# EAGLE library part DCJ0202 (library trainlib)
DC POWER JACK Source: DCJ0202.pdf
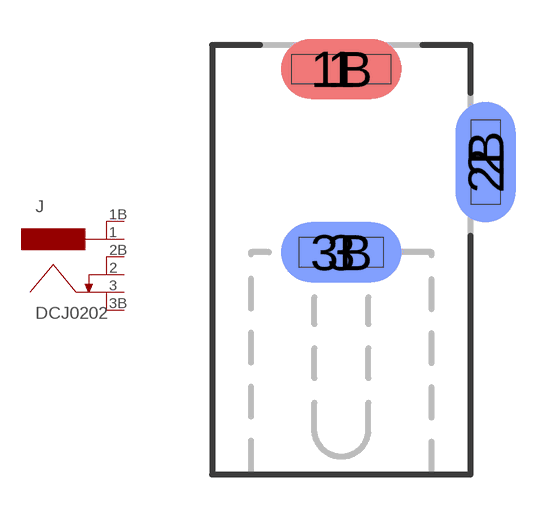
[diagram p29: symbol with the pads of DCJ0202; footprint DCJ0202]

Designator prefix J

## DCJ0202 (OC_FARNELL: unknown; OC_NEWARK: unknown)  [DCJ0202]
1  1  pas
1B  1B  pas
2  2  pas
2B  2B  pas
3  3  pas
3B  3B  pas

## Footprint DCJ0202 (pad centres in mm)
DC POWER JACK Source: DCJ0202.pdf
smd 4 x 2 bottom: 1 0,3.1; 3 0,-3
smd 4 x 2: 1B 0,3.1; 3B 0,-3
smd 2 x 4 bottom: 2 4.8,0
smd 2 x 4: 2B 4.8,0